# EAGLE library part 5009980900 (library Custom)
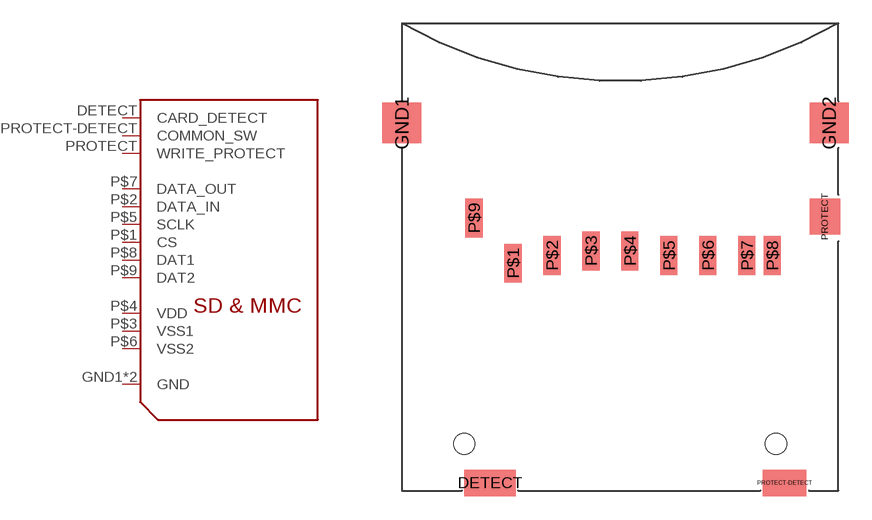
[diagram p1: symbol with the pads of 5009980900; footprint 5009980900]

Designator prefix -

## 5009980900  [5009980900]
DETECT  CARD_DETECT  pas
GND1  GND  sup
GND2  GND  sup
P$1  CS  in
P$2  DATA_IN  in
P$3  VSS1  sup
P$4  VDD  sup
P$5  SCLK  in
P$6  VSS2  sup
P$7  DATA_OUT  out
P$8  DAT1
P$9  DAT2
PROTECT  WRITE_PROTECT  pas
PROTECT-DETECT  COMMON_SW  pas

## Footprint 5009980900 (pad centres in mm)
smd 3.3 x 1.7: DETECT -8.35,-2.5
smd 2.5 x 2.6: GND1 -14,20.6; GND2 13.4,20.6
smd 1.1 x 2.5: P$1 -6.875,11.6; P$2 -4.375,12.1; P$3 -1.875,12.4; P$4 0.625,12.4; P$5 3.125,12.1; P$6 5.625,12.1; P$7 8.125,12.1; P$8 9.75,12.1; P$9 -9.375,14.5
smd 1.95 x 2.3: PROTECT 13.125,14.6
smd 2.8 x 1.7: PROTECT-DETECT 10.55,-2.5
hole 1.36 at 10,0
hole 1.36 at -10,0